# EAGLE library part TAS5352 (library Audio-Power-amlifier V.2.0)
The TAS5352 is a high-performance, integrated stereo digital amplifier power stage designed to drive a 4-Ω bridge-tied load (BTL) at up to 125 W per channel with low harmonic distortion, low integrated noise, and low idle current.
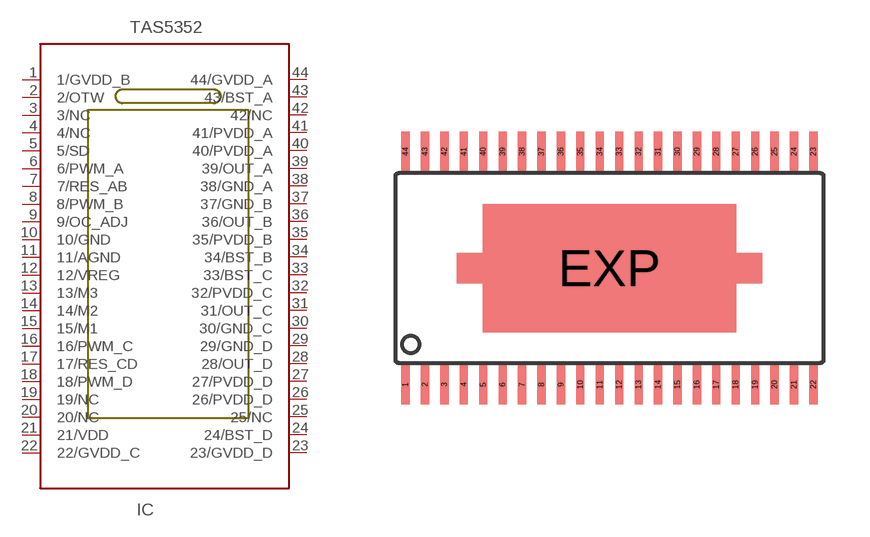
[diagram p102: symbol with the pads of PSO44_0,635; footprint PSO44_0,635]

Designator prefix IC

## TAS5352  [PSO44_0,635]
1  1/GVDD_B  pwr
2  2/OTW
3  3/NC  nc
4  4/NC  nc
5  5/SD
6  6/PWM_A  in
7  7/RES_AB  in
8  8/PWM_B  in
9  9/OC_ADJ  in
10  10/GND  pwr
11  11/AGND  pwr
12  12/VREG
13  13/M3
14  14/M2
15  15/M1
16  16/PWM_C  in
17  17/RES_CD  in
18  18/PWM_D  in
19  19/NC  nc
20  20/NC  nc
21  21/VDD  pwr
22  22/GVDD_C  pwr
23  23/GVDD_D  pwr
24  24/BST_D
25  25/NC  nc
26  26/PVDD_D  pwr
27  27/PVDD_D  pwr
28  28/OUT_D  out
29  29/GND_D  pwr
30  30/GND_C  pwr
31  31/OUT_C  out
32  32/PVDD_C  pwr
33  33/BST_C
34  34/BST_B
35  35/PVDD_B  pwr
36  36/OUT_B  out
37  37/GND_B  pwr
38  38/GND_A  pwr
39  39/OUT_A  out
40  40/PVDD_A  pwr
41  41/PVDD_A  pwr
42  42/NC  nc
43  43/BST_A
44  44/GVDD_A  pwr

## Footprint PSO44_0,635 (pad centres in mm)
smd 0.27 x 1.3: 1 -6.668,-3.81; 2 -6.032,-3.81; 3 -5.397,-3.81; 4 -4.763,-3.81; 5 -4.128,-3.81; 6 -3.493,-3.81; 7 -2.857,-3.81; 8 -2.223,-3.81; 9 -1.587,-3.81; 10 -0.953,-3.81; 11 -0.318,-3.81; 12 0.318,-3.81; 13 0.953,-3.81; 14 1.587,-3.81; 15 2.223,-3.81; 16 2.857,-3.81; 17 3.493,-3.81; 18 4.128,-3.81; 19 4.763,-3.81; 20 5.397,-3.81; 21 6.032,-3.81; 22 6.668,-3.81; 23 6.668,3.81; 24 6.032,3.81; 25 5.397,3.81; 26 4.763,3.81; 27 4.128,3.81; 28 3.493,3.81; 29 2.857,3.81; 30 2.223,3.81; 31 1.587,3.81; 32 0.953,3.81; 33 0.318,3.81; 34 -0.318,3.81; 35 -0.953,3.81; 36 -1.587,3.81; 37 -2.223,3.81; 38 -2.857,3.81; 39 -3.493,3.81; 40 -4.128,3.81; 41 -4.763,3.81; 42 -5.397,3.81; 43 -6.032,3.81; 44 -6.668,3.81
smd 8.3 x 4.2: EXP 0,0